# EAGLE library part AD817 (library analog-devices)
High Speed, Low Power Wide Supply Range Amplifier Source: http://www.analog.com/static/imported-files/data_sheets/AD817.pdf
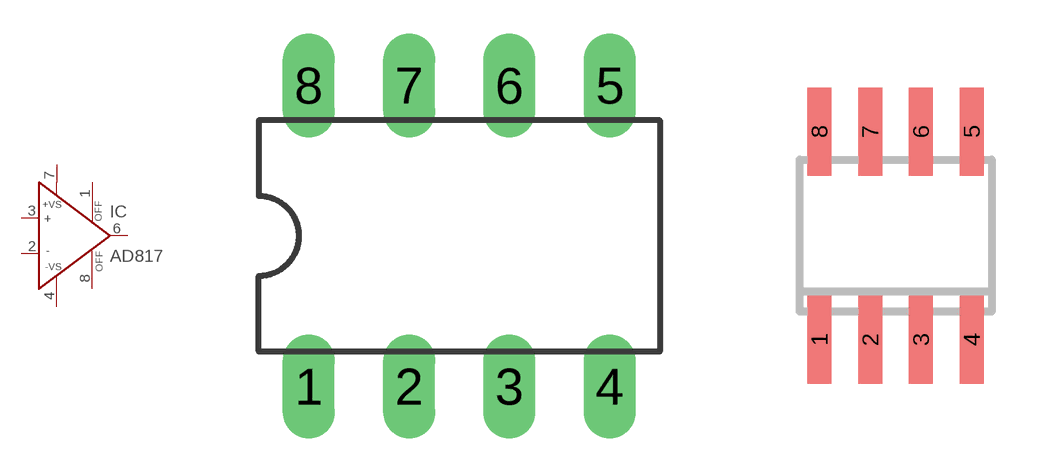
[diagram p34: symbol with the pads of DIL08; footprints DIL08, SO8]

Designator prefix IC

## AD817N (OC_FARNELL: 9604006; OC_NEWARK: unknown)  [DIL08]
1  OFF  pas
2  IN-  in
3  IN+  in
4  -VS  in
6  OUT  out
7  +VS  in
8  OFF  pas

## AD817 (MF: ALTERA CORPORATION; MPN: AD817ARZ; OC_FARNELL: 1660992; OC_NEWARK: 88H0179)  [SO8]
Pads as for DIL08

## Footprint DIL08 (pad centres in mm)
Dual In Line Package
drill 0.813 long: 1 -3.81,-3.81; 2 -1.27,-3.81; 3 1.27,-3.81; 4 3.81,-3.81; 5 3.81,3.81; 6 1.27,3.81; 7 -1.27,3.81; 8 -3.81,3.81

## Footprint SO8 (pad centres in mm)
SMALL OUTLINE INTEGRATED CIRCUIT SOP-8L Source: http://www.diodes.com/datasheets/ds31262.pdf
smd 0.6 x 2.2: 1 -1.905,-2.6; 2 -0.635,-2.6; 3 0.635,-2.6; 4 1.905,-2.6; 5 1.905,2.6; 6 0.635,2.6; 7 -0.635,2.6; 8 -1.905,2.6